# Altium footprint library SMD Switches.PcbLib: 8 footprints
Each footprint in its own frame and in the unit in brackets; x right, y up, seen from the top. Pads: shape width x height; smd on the part's side, far side on the other; paste and mask are expansions set on the pad; w line width, h text height; cw(c..) or ccw(c..) is an arc to the next point about the centre after c.
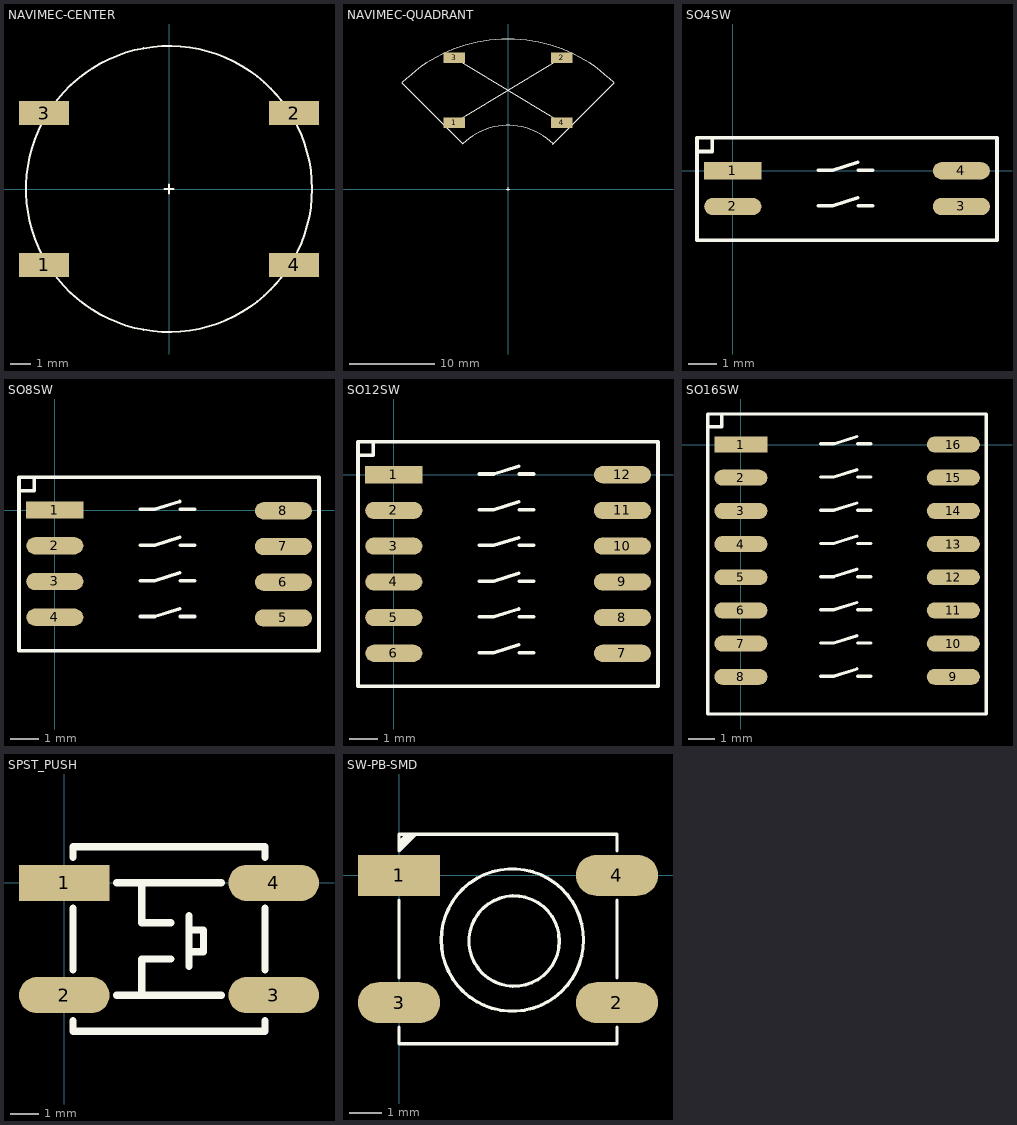
[diagram p0: the footprints below, top view; thin cyan lines are the x and y axes]

## NAVIMEC-CENTER [mm]
pads (4):
  rect 2.5x1.2 smd: 1(-6.25,-3.8) 2(6.25,3.8) 3(-6.25,3.8) 4(6.25,-3.8)
Top Overlay:
  circle w0.102: c0,0 r7.15
  lines w0.102: -0.225,0 0.225,0 ; 0,-0.225 0,0.225

## NAVIMEC-QUADRANT [mm]
pads (4):
  rect 2.5x1.2 smd: 1(-6.25,7.725) 2(6.25,15.325) 3(-6.25,15.325) 4(6.25,7.725)
Top Overlay:
  lines w0.102: -12.374,12.374 cw(c0,0) 12.374,12.374 5.249,5.249 ; -12.372,12.372 -5.253,5.253 ; -6.25,7.725 6.25,15.325 ; -6.25,15.325 6.25,7.725 ; -5.25,5.25 cw(c0,0) 5.25,5.25 ; -0.225,0 0.225,0 ; 0,-0.225 0,0.225

## SO4SW [mil]
pads (4):
  rect 80x24 smd: 1(0,0)
  oval 80x24 smd: 2(0,-50) 3(320,-50) 4(320,0)
Top Overlay:
  lines w5: -50.12,9.98 -50.12,14.98 ; -50.12,27 -29,27 -29,45.98 ; 120,-49 140,-49 175,-38 ; 120,1 140,1 175,12 ; 176,-49 196,-49 ; 176,1 196,1 ; -50.12,-97 369.88,-97 369.88,45.98 -50.12,45.98 -50.12,-97
3D body: height 80, standoff 20, extent 45,-97 275,12
3D body: height 60, standoff 10, extent 45,-97 275,46
3D body: height 20, standoff 0, extent 0,-7 27,8
3D body: height 35, standoff 15, extent 13.5,-7 46,8
3D body: height 35, standoff 15, extent 13.5,-57 46,-42
3D body: height 20, standoff 0, extent 0,-57 27,-42
3D body: height 35, standoff 15, extent 274,-58 306.5,-43
3D body: height 20, standoff 0, extent 293,-58 320,-43
3D body: height 35, standoff 15, extent 274,-8 306.5,7
3D body: height 20, standoff 0, extent 293,-8 320,7
3D body: height 61, standoff 60, extent 63.08,-9.98 83,9.98
3D body: height 80, standoff 20, extent 45,12 275,45
3D body: height 61, standoff 60, extent 92,-90 248,25
3D body: height 100, standoff 60, extent 120,-12 144,12
3D body: height 80, standoff 20, extent 120,-38 195,-12
3D body: height 100, standoff 60, extent 171,-62 195,-38
3D body: height 81, standoff 80, extent 210,-79 265.29,-29
3D body: height 81, standoff 80, extent 210,-18.5 265,31.5

## SO8SW [mil]
pads (8):
  rect 80x24 smd: 1(0,0)
  oval 80x24 smd: 2(0,-50) 3(0,-100) 4(0,-150) 5(320,-151) 6(320,-101) 7(320,-51) 8(320,-1)
Top Overlay:
  lines w5: -50.12,9.98 -50.12,14.98 ; -50.12,27 -29,27 -29,45.98 ; 120,-149 140,-149 175,-138 ; 120,-99 140,-99 175,-88 ; 120,-49 140,-49 175,-38 ; 120,1 140,1 175,12 ; 176,-149 196,-149 ; 176,-99 196,-99 ; 176,-49 196,-49 ; 176,1 196,1 ; -50.12,-197 -50.12,45.98 369.88,45.98 369.88,-197 -50.12,-197
3D body: height 81, standoff 80, extent 210,-26.5 265,23.5
3D body: height 81, standoff 80, extent 210,-87 265.29,-37
3D body: height 100, standoff 60, extent 120,-112 144,-88
3D body: height 80, standoff 20, extent 120,-138 195,-112
3D body: height 100, standoff 60, extent 171,-162 195,-138
3D body: height 80, standoff 20, extent 120,-88 195,-62
3D body: height 100, standoff 60, extent 171,-62 195,-38
3D body: height 80, standoff 20, extent 120,-38 195,-12
3D body: height 100, standoff 60, extent 120,-12 144,12
3D body: height 61, standoff 60, extent 92,-172 248,25
3D body: height 80, standoff 20, extent 45,12 275,45
3D body: height 35, standoff 15, extent 274,-9 306.5,6
3D body: height 20, standoff 0, extent 293,-9 320,6
3D body: height 61, standoff 60, extent 63.08,-9.98 83,9.98
3D body: height 20, standoff 0, extent 293,-59 320,-44
3D body: height 35, standoff 15, extent 274,-59 306.5,-44
3D body: height 20, standoff 0, extent 293,-109 320,-94
3D body: height 35, standoff 15, extent 274,-109 306.5,-94
3D body: height 35, standoff 15, extent 274,-159 306.5,-144
3D body: height 20, standoff 0, extent 293,-159 320,-144
3D body: height 20, standoff 0, extent 293,-7 320,8
3D body: height 20, standoff 0, extent 0,-157 27,-142
3D body: height 35, standoff 15, extent 13.5,-157 46,-142
3D body: height 20, standoff 0, extent 0,-107 27,-92
3D body: height 35, standoff 15, extent 13.5,-107 46,-92
3D body: height 20, standoff 0, extent 0,-57 27,-42
3D body: height 35, standoff 15, extent 13.5,-57 46,-42
3D body: height 35, standoff 15, extent 13.5,-7 46,8
3D body: height 20, standoff 0, extent 0,-7 27,8
3D body: height 60, standoff 10, extent 45,-197 275,46
3D body: height 80, standoff 20, extent 45,-197 275,12

## SO12SW [mil]
pads (12):
  rect 80x24 smd: 1(0,0)
  oval 80x24 smd: 2(0,-50) 3(0,-100) 4(0,-150) 5(0,-200) 6(0,-250) 7(320,-250) 8(320,-200) 9(320,-150) 10(320,-100) 11(320,-50) 12(320,0)
Top Layer:
  lines w4: 320,-250 321,-250
Top Overlay:
  lines w5: -50.12,9.98 -50.12,14.98 ; -50.12,27 -29,27 -29,45.98 ; 120,-249 140,-249 175,-238 ; 120,-199 140,-199 175,-188 ; 120,-149 140,-149 175,-138 ; 120,-99 140,-99 175,-88 ; 120,-49 140,-49 175,-38 ; 120,1 140,1 175,12 ; 176,-249 196,-249 ; 176,-199 196,-199 ; 176,-149 196,-149 ; 176,-99 196,-99 ; 176,-49 196,-49 ; 176,1 196,1 ; -50.12,-296 369.88,-296 369.88,45.98 -50.12,45.98 -50.12,-296
3D body: height 80, standoff 20, extent 45,-296 275,12
3D body: height 60, standoff 10, extent 45,-296 275,46
3D body: height 20, standoff 0, extent 0,-7 27,8
3D body: height 35, standoff 15, extent 13.5,-7 46,8
3D body: height 35, standoff 15, extent 13.5,-57 46,-42
3D body: height 20, standoff 0, extent 0,-57 27,-42
3D body: height 35, standoff 15, extent 13.5,-107 46,-92
3D body: height 20, standoff 0, extent 0,-107 27,-92
3D body: height 35, standoff 15, extent 13.5,-157 46,-142
3D body: height 20, standoff 0, extent 0,-157 27,-142
3D body: height 20, standoff 0, extent 0,-207 27,-192
3D body: height 35, standoff 15, extent 13.5,-207 46,-192
3D body: height 35, standoff 15, extent 13.5,-257 46,-242
3D body: height 20, standoff 0, extent 0,-257 27,-242
3D body: height 35, standoff 15, extent 274,-258 306.5,-243
3D body: height 20, standoff 0, extent 293,-258 320,-243
3D body: height 35, standoff 15, extent 274,-107 306.5,-92
3D body: height 20, standoff 0, extent 293,-107 320,-92
3D body: height 35, standoff 15, extent 274,-57 306.5,-42
3D body: height 20, standoff 0, extent 293,-57 320,-42
3D body: height 35, standoff 15, extent 274,-7 306.5,8
3D body: height 20, standoff 0, extent 293,-7 320,8
3D body: height 61, standoff 60, extent 63.08,-9.98 83,9.98
3D body: height 20, standoff 0, extent 293,-157 320,-142
3D body: height 35, standoff 15, extent 274,-157 306.5,-142
3D body: height 20, standoff 0, extent 293,-208 320,-193
3D body: height 35, standoff 15, extent 274,-208 306.5,-193
3D body: height 80, standoff 20, extent 45,12 275,45
3D body: height 61, standoff 60, extent 92,-273 248,25
3D body: height 100, standoff 60, extent 120,-12 144,12
3D body: height 80, standoff 20, extent 120,-38 195,-12
3D body: height 100, standoff 60, extent 171,-62 195,-38
3D body: height 80, standoff 20, extent 120,-88 195,-62
3D body: height 80, standoff 20, extent 120,-188 195,-162
3D body: height 100, standoff 60, extent 171,-162 195,-138
3D body: height 80, standoff 20, extent 120,-138 195,-112
3D body: height 100, standoff 60, extent 120,-112 144,-88
3D body: height 100, standoff 60, extent 171,-262 195,-238
3D body: height 80, standoff 20, extent 120,-238 195,-212
3D body: height 100, standoff 60, extent 120,-212 144,-188
3D body: height 81, standoff 80, extent 210,-87 265.29,-37
3D body: height 81, standoff 80, extent 210,-26.5 265,23.5

## SO16SW [mil]
pads (16):
  rect 80x24 smd: 1(0,0)
  oval 80x24 smd: 2(0,-50) 3(0,-100) 4(0,-150) 5(0,-200) 6(0,-250) 7(0,-300) 8(0,-350) 9(320,-350) 10(320,-300) 11(320,-250) 12(320,-200) 13(320,-150) 14(320,-100) 15(320,-50) 16(320,0)
Top Overlay:
  lines w5: -50.12,9.98 -50.12,14.98 ; -50.12,27 -29,27 -29,45.98 ; 120,-349 140,-349 175,-338 ; 120,-299 140,-299 175,-288 ; 120,-249 140,-249 175,-238 ; 120,-199 140,-199 175,-188 ; 120,-149 140,-149 175,-138 ; 120,-99 140,-99 175,-88 ; 120,-49 140,-49 175,-38 ; 120,1 140,1 175,12 ; 176,-349 196,-349 ; 176,-299 196,-299 ; 176,-249 196,-249 ; 176,-199 196,-199 ; 176,-149 196,-149 ; 176,-99 196,-99 ; 176,-49 196,-49 ; 176,1 196,1 ; -50.12,-406.02 -50.12,45.98 369.88,45.98 369.88,-406.02 -50.12,-406.02
3D body: height 81, standoff 80, extent 210,-26.5 265,23.5
3D body: height 81, standoff 80, extent 210,-87 265.29,-37
3D body: height 100, standoff 60, extent 120,-312 144,-288
3D body: height 80, standoff 20, extent 120,-338 195,-312
3D body: height 100, standoff 60, extent 171,-362 195,-338
3D body: height 100, standoff 60, extent 120,-212 144,-188
3D body: height 80, standoff 20, extent 120,-238 195,-212
3D body: height 100, standoff 60, extent 171,-262 195,-238
3D body: height 80, standoff 20, extent 120,-288 195,-262
3D body: height 100, standoff 60, extent 120,-112 144,-88
3D body: height 80, standoff 20, extent 120,-138 195,-112
3D body: height 100, standoff 60, extent 171,-162 195,-138
3D body: height 80, standoff 20, extent 120,-188 195,-162
3D body: height 80, standoff 20, extent 120,-88 195,-62
3D body: height 100, standoff 60, extent 171,-62 195,-38
3D body: height 80, standoff 20, extent 120,-38 195,-12
3D body: height 100, standoff 60, extent 120,-12 144,12
3D body: height 61, standoff 60, extent 92,-383 248,25
3D body: height 80, standoff 20, extent 45,12 275,45
3D body: height 35, standoff 15, extent 13.5,-357 46,-342
3D body: height 20, standoff 0, extent 0,-357 27,-342
3D body: height 35, standoff 15, extent 274,-357 306.5,-342
3D body: height 20, standoff 0, extent 293,-357 320,-342
3D body: height 61, standoff 60, extent 63.08,-9.98 83,9.98
3D body: height 20, standoff 0, extent 293,-207 320,-192
3D body: height 35, standoff 15, extent 274,-207 306.5,-192
3D body: height 20, standoff 0, extent 293,-257 320,-242
3D body: height 35, standoff 15, extent 274,-257 306.5,-242
3D body: height 20, standoff 0, extent 293,-307 320,-292
3D body: height 35, standoff 15, extent 274,-307 306.5,-292
3D body: height 20, standoff 0, extent 0,-307 27,-292
3D body: height 35, standoff 15, extent 13.5,-307 46,-292
3D body: height 20, standoff 0, extent 0,-257 27,-242
3D body: height 35, standoff 15, extent 13.5,-257 46,-242
3D body: height 35, standoff 15, extent 13.5,-207 46,-192
3D body: height 20, standoff 0, extent 0,-207 27,-192
3D body: height 20, standoff 0, extent 293,-7 320,8
3D body: height 35, standoff 15, extent 274,-7 306.5,8
3D body: height 20, standoff 0, extent 293,-57 320,-42
3D body: height 35, standoff 15, extent 274,-57 306.5,-42
3D body: height 20, standoff 0, extent 293,-107 320,-92
3D body: height 35, standoff 15, extent 274,-107 306.5,-92
3D body: height 20, standoff 0, extent 293,-157 320,-142
3D body: height 35, standoff 15, extent 274,-157 306.5,-142
3D body: height 20, standoff 0, extent 0,-157 27,-142
3D body: height 35, standoff 15, extent 13.5,-157 46,-142
3D body: height 20, standoff 0, extent 0,-107 27,-92
3D body: height 35, standoff 15, extent 13.5,-107 46,-92
3D body: height 20, standoff 0, extent 0,-57 27,-42
3D body: height 35, standoff 15, extent 13.5,-57 46,-42
3D body: height 35, standoff 15, extent 13.5,-7 46,8
3D body: height 20, standoff 0, extent 0,-7 27,8
3D body: height 60, standoff 10, extent 45,-405 275,46
3D body: height 80, standoff 20, extent 45,-406 275,12

## SPST_PUSH [mil]
pads (4):
  rect 125x50 smd: 1(0,0)
  oval 125x50 smd: 2(0,-155) 3(289.2,-155) 4(289.2,0)
Top Overlay:
  lines w10: 12.1,-190 12.1,-205 277.1,-205 277.1,-190 ; 12.1,-120 12.1,-35 ; 12.1,35 12.1,50 277.1,50 277.1,35 ; 72.1,-155 217.1,-155 ; 72.1,0 217.1,0 ; 107.1,-155 107.1,-105 147.1,-105 ; 107.1,0 107.1,-55 147.1,-55 ; 172.1,-115 172.1,-45 ; 172.1,-95 192.1,-95 192.1,-65 172.1,-65 ; 277.1,-120 277.1,-35

## SW-PB-SMD [mil]
pads (4):
  rect 100x50 smd: 1(0,0)
  oval 100x50 smd: 2(265,-155) 3(0,-155) 4(265,0)
Top Overlay:
  circle w4: c140,-80 r55
  circle w4: c137.79,-78.74 r86.61
  lines w4: 0,-185 0,-205 265,-205 265,-185 ; 0,-125 0,-30 ; 265,-125 265,-30 ; 265,30 265,50 0,50 ; 0,30 0,35 15,50 ; 0,30 0,40 ; 0,30 20,50 ; 0,30 0,40 ; 0,30 0,50 ; 0,40 10,50 ; 0,50 20,50 ; 0,50 10,50 ; 10,50 15,50 ; 15,50 20,50 ; 15,50 20,50
3D body: height 10, standoff 0, extent -28,-16 -14,17
3D body: height 10, standoff 0, extent -28,-172 -14,-139
3D body: height 10, standoff 0, extent 283,-172 297,-139
3D body: height 10, standoff 0, extent 283,-16 297,17
3D body: height 40, standoff 30, extent -2,-172 12,-139
3D body: height 40, standoff 30, extent -2,-16 12,17
3D body: height 40, standoff 30, extent 257,-16 271,17
3D body: height 40, standoff 30, extent 257,-172 271,-139
3D body: height 40, standoff 0, extent 271,-172 283,-139
3D body: height 40, standoff 0, extent 271,-16 283,17
3D body: height 40, standoff 0, extent -14,-16 -2,17
3D body: height 40, standoff 0, extent -14,-172 -2,-139
3D body: height 110, standoff 100, extent 194.16,-9.96 234,29.96
3D body: height 110, standoff 100, extent 35,-9.96 74.84,29.96
3D body: height 110, standoff 100, extent 35,-184.96 74.84,-145.04
3D body: height 140, standoff 100, extent 59,-158.84 218.37,0.84
3D body: height 110, standoff 100, extent 194.16,-184.96 234,-145.04
3D body: height 104, standoff 100, extent 7,-205 262,50
3D body: height 100, standoff 0, extent 7,-205.5 262,49.5